# Altium schematic symbol library 纽扣电池.SchLib: 1 symbol
Pins are listed as number, name and electrical type; pins without a type are passive.

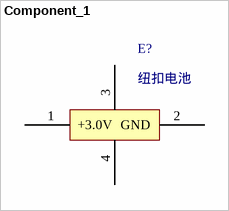
[diagram p0: symbol Component_1]

## Component_1
designator E?, comment 纽扣电池
pins: 1 +3.0V, 2 GND, 3, 4